# Altium schematic symbol library SCH - MCU - STM32 - WCH MICROELECTRONICS CH32V305FBP6 TSSOP20.SchLib: 1 symbol
Pins are listed as number, name and electrical type; pins without a type are passive.

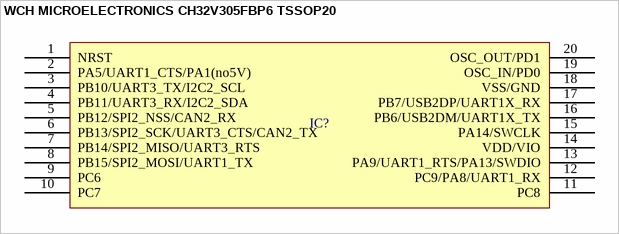
[diagram p0: symbol WCH MICROELECTRONICS CH32V305FBP6 TSSOP20]

## WCH MICROELECTRONICS CH32V305FBP6 TSSOP20
designator IC?  (value not drawn)
pins: 1 NRST, 2 PA5/UART1_CTS/PA1(no5V), 3 PB10/UART3_TX/I2C2_SCL, 4 PB11/UART3_RX/I2C2_SDA, 5 PB12/SPI2_NSS/CAN2_RX, 6 PB13/SPI2_SCK/UART3_CTS/CAN2_TX, 7 PB14/SPI2_MISO/UART3_RTS, 8 PB15/SPI2_MOSI/UART1_TX, 9 PC6, 10 PC7, 11 PC8, 12 PC9/PA8/UART1_RX, 13 PA9/UART1_RTS/PA13/SWDIO, 14 VDD/VIO, 15 PA14/SWCLK, 16 PB6/USB2DM/UART1X_TX, 17 PB7/USB2DP/UART1X_RX, 18 VSS/GND, 19 OSC_IN/PD0, 20 OSC_OUT/PD1